# Altium footprint library IRF9310TRPBFCT-ND.PcbLib: 1 footprints
Each footprint in its own frame and in the unit in brackets; x right, y up, seen from the top. Pads: shape width x height; smd on the part's side, far side on the other; paste and mask are expansions set on the pad; w line width, h text height; cw(c..) or ccw(c..) is an arc to the next point about the centre after c.
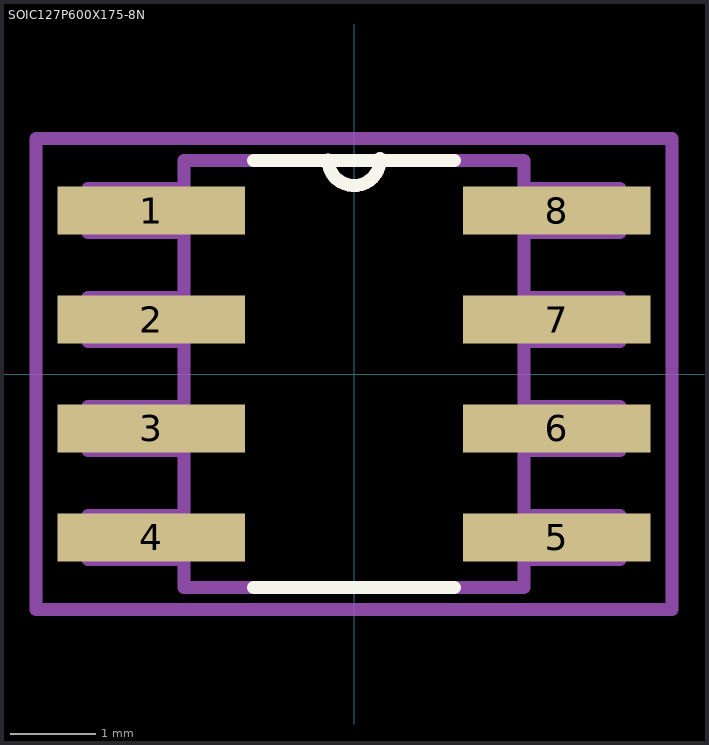
[diagram p0: the footprint, top view; thin cyan lines are the x and y axes]

## SOIC127P600X175-8N [mil]
pads (8):
  rect 86x22 smd: 1(-93,75) 2(-93,25) 3(-93,-25) 4(-93,-75) 5(93,-75) 6(93,-25) 7(93,25) 8(93,75)
Top Overlay:
  lines w6: -46,-98 46,-98 ; -46,98 -12,98 46,98 ; -12,98.08 ccw(c0,98.5) 12,98.92
Mechanical 1:
  lines w6: -12,98.08 ccw(c0,98.5) 12,98.92 ; -146,-108 -146,108 146,108 146,-108 -146,-108 ; -122,-85 -78,-85 -78,-65 -122,-65 -122,-85 ; -122,-35 -78,-35 -78,-15 -122,-15 -122,-35 ; -122,15 -78,15 -78,35 -122,35 -122,15 ; -122,65 -78,65 -78,85 -122,85 -122,65 ; -78,-98 -78,98 -12,98 78,98 78,-98 -78,-98 ; 78,-85 122,-85 122,-65 78,-65 78,-85 ; 78,-35 122,-35 122,-15 78,-15 78,-35 ; 78,15 122,15 122,35 78,35 78,15 ; 78,65 122,65 122,85 78,85 78,65